# EAGLE library part BOX10P (library user_conector)
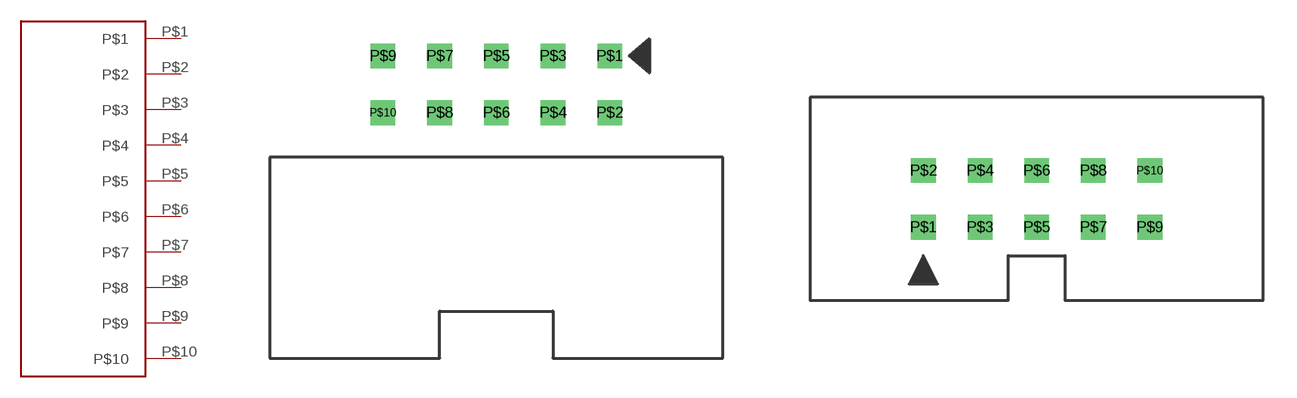
[diagram p4: symbol with the pads of BOX10P-L; footprints BOX10P-L, BOX10P-T]

Designator prefix -

## BOX10PBOX10P-L  [BOX10P-L]
P$1  P$1
P$2  P$2
P$3  P$3
P$4  P$4
P$5  P$5
P$6  P$6
P$7  P$7
P$8  P$8
P$9  P$9
P$10  P$10

## BOX10PBOX10P-T  [BOX10P-T]
Pads as for BOX10P-L

## BOX10P  [CON_HEDA10P_1.27]
1  P$1
2  P$2
3  P$3
4  P$4
5  P$5
6  P$6
7  P$7
8  P$8
9  P$9
10  P$10

## BOX10PBOX10PIN-MESU  [BOX10P-MESU]
Pads as for CON_HEDA10P_1.27

## Footprint BOX10P-L (pad centres in mm)
drill 0.6 square: P$1 5.08,2.54; P$2 5.08,0; P$3 2.54,2.54; P$4 2.54,0; P$5 0,2.54; P$6 0,0; P$7 -2.54,2.54; P$8 -2.54,0; P$9 -5.08,2.54; P$10 -5.08,0

## Footprint BOX10P-T (pad centres in mm)
drill 0.6 square: P$1 -5.08,-1.27; P$2 -5.08,1.27; P$3 -2.54,-1.27; P$4 -2.54,1.27; P$5 0,-1.27; P$6 0,1.27; P$7 2.54,-1.27; P$8 2.54,1.27; P$9 5.08,-1.27; P$10 5.08,1.27

## Footprint CON_HEDA10P_1.27 (pad centres in mm)
drill 0.6: 1 1.08,6.985; 2 2.35,6.985; 3 1.08,5.715; 4 2.35,5.715; 5 1.08,4.445; 6 2.35,4.445; 7 1.08,3.175; 8 2.35,3.175; 9 1.08,1.905; 10 2.35,1.905

## Footprint BOX10P-MESU (pad centres in mm)
2.54ピッチ10ピンボックスメスソケット（スルーホール） digikey[S9194-ND]
drill 1.02: 1 -5.08,1.73; 2 -5.08,4.27; 3 -2.54,1.73; 4 -2.54,4.27; 5 0,1.73; 6 0,4.27; 7 2.54,1.73; 8 2.54,4.27; 9 5.08,1.73; 10 5.08,4.27